# Altium schematic symbol library DialogSemiconductor.SchLib: 2 symbols
Pins are listed as number, name and electrical type; pins without a type are passive.

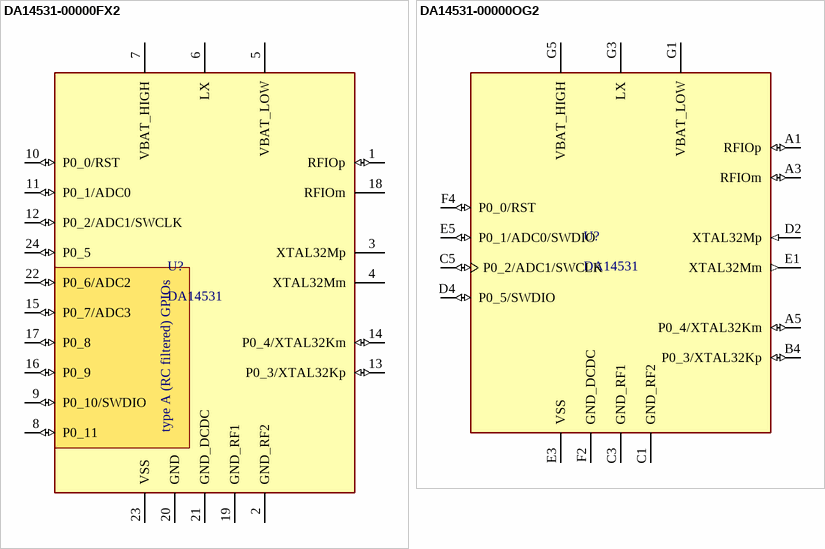
[diagram p0: symbols DA14531-00000FX2 to DA14531-00000OG2]

## DA14531-00000FX2
designator U?, comment DA14531
IC RF TxRx + MCU Bluetooth Bluetooth v5.1 2.4GHz 24-WFQFN, FC; Part Number: DA14531-00000FX2; Manufacturer: Dialog Semiconductor; Value: DA14531; Device Package: WFQFN-24; Mounting Type: SMT; Operating Temperature: *; Size / Dimension: *; Thickness (Max): *; Distributor link 1: https://www.digikey.com.au/product-detail/en/dialog-semiconductor-gmbh/DA14531-00000FX2/1695-DA14531-00000FX2CT-ND/10475443; Distributor link 2: *; Distributor link 3: *; Link: https://www.dialog-semiconductor.com/products/connectivity/bluetooth-low-energy/products/da14530-and-da14531
footprint DA14531-00000FX2-FCGQFN24 (FCGQFN24 footprint for DA14531)
pins: 1 RFIOp (io), 2 GND_RF2 (power), 3 XTAL32Mp, 4 XTAL32Mm, 5 VBAT_LOW (power), 6 LX, 7 VBAT_HIGH (power), 8 P0_11 (io), 9 P0_10/SWDIO (io), 10 P0_0/RST (io), 11 P0_1/ADC0 (io), 12 P0_2/ADC1/SWCLK (io), 13 P0_3/XTAL32Kp (io), 14 P0_4/XTAL32Km (io), 15 P0_7/ADC3 (io), 16 P0_9 (io), 17 P0_8 (io), 18 RFIOm (power), 19 GND_RF1 (power), 20 GND (power), 21 GND_DCDC (power), 22 P0_6/ADC2 (io), 23 VSS (power), 24 P0_5 (io)
text: type A (RC filtered) GPIOs

## DA14531-00000OG2
designator U?, comment DA14531
IC RF TxRx + MCU Bluetooth Bluetooth v5.1 2.4GHz 17-XFBGA, WLCSP; Part Number: DA14531-00000OG2; Manufacturer: Dialog Semiconductor; Value: DA14531; Device Package: XFBGA-17; Mounting Type: SMT; Operating Temperature: *; Size / Dimension: *; Thickness (Max): *; Distributor link 1: https://www.digikey.com.au/product-detail/en/dialog-semiconductor-gmbh/DA14531-00000OG2/1695-DA14531-00000OG2CT-ND/10475457; Distributor link 2: *; Distributor link 3: *; Link: https://www.dialog-semiconductor.com/products/connectivity/bluetooth-low-energy/products/da14530-and-da14531
footprint DA14531-00000OG2-WLCSP17 (WLCSP17 footprint for DA14531)
pins: A1 RFIOp (io), A3 RFIOm (io), A5 P0_4/XTAL32Km (io), B4 P0_3/XTAL32Kp (io), C1 GND_RF2 (power), C3 GND_RF1 (power), C5 P0_2/ADC1/SWCLK (io), D2 XTAL32Mp (in), D4 P0_5/SWDIO (io), E1 XTAL32Mm (out), E3 VSS (power), E5 P0_1/ADC0/SWDIO (io), F2 GND_DCDC (power), F4 P0_0/RST (io), G1 VBAT_LOW (power), G3 LX, G5 VBAT_HIGH (power)